# Altium schematic symbol library SCH - POWER - SWITCHMODE - TI TPS60255_RTE_16.SchLib: 1 symbol
Pins are listed as number, name and electrical type; pins without a type are passive.

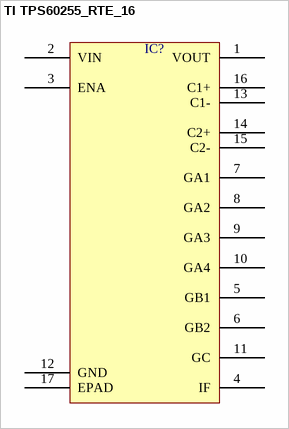
[diagram p0: symbol TI TPS60255_RTE_16]

## TI TPS60255_RTE_16
designator IC?  (value not drawn)
pins: 1 VOUT, 2 VIN, 3 ENA, 4 IF, 5 GB1, 6 GB2, 7 GA1, 8 GA2, 9 GA3, 10 GA4, 11 GC, 12 GND, 13 C1-, 14 C2+, 15 C2-, 16 C1+, 17 EPAD